# EAGLE library part AVRPRG (library gipi)
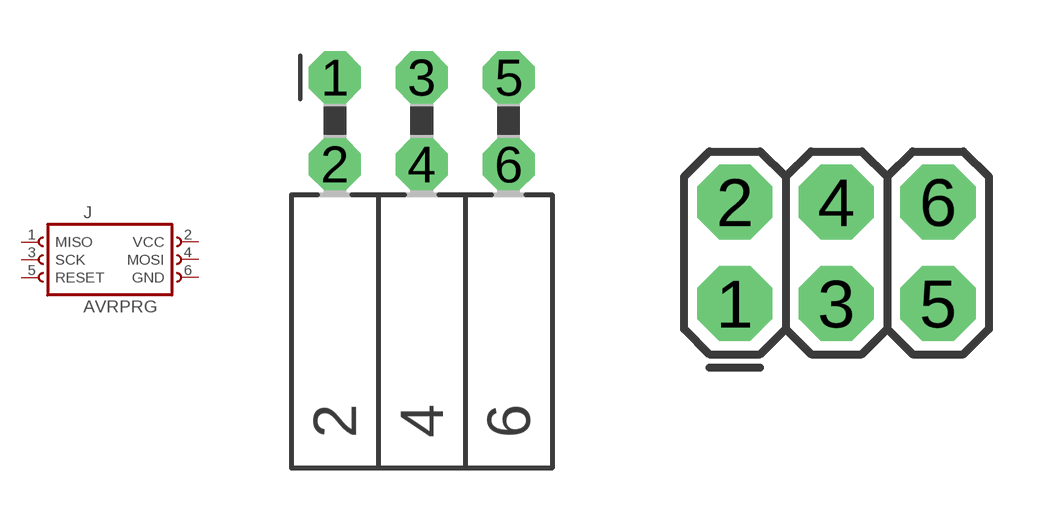
[diagram p1: symbol with the pads of FEM2X3; footprints FEM2X3, 2X3]

Designator prefix J

## AVRPRG  [FEM2X3]
1  MISO  pas
2  VCC  pas
3  SCK  pas
4  MOSI  pas
5  RESET  pas
6  GND  pas

## AVRPRGSTANDARD  [2X3]
Pads as for FEM2X3

## Footprint FEM2X3 (pad centres in mm)
drill 1.016 octagon: 1 -2.54,3.81; 2 -2.54,1.27; 3 0,3.81; 4 0,1.27; 5 2.54,3.81; 6 2.54,1.27

## Footprint 2X3 (pad centres in mm)
drill 1.016 pad 1.88 octagon: 1 0,0; 2 0,2.54; 3 2.54,0; 4 2.54,2.54; 5 5.08,0; 6 5.08,2.54